# Altium footprint library 3dp_stdc14_tape_frame.PcbLib: 3 footprints
Each footprint in its own frame and in the unit in brackets; x right, y up, seen from the top. Pads: shape width x height; smd on the part's side, far side on the other; paste and mask are expansions set on the pad; w line width, h text height; cw(c..) or ccw(c..) is an arc to the next point about the centre after c.
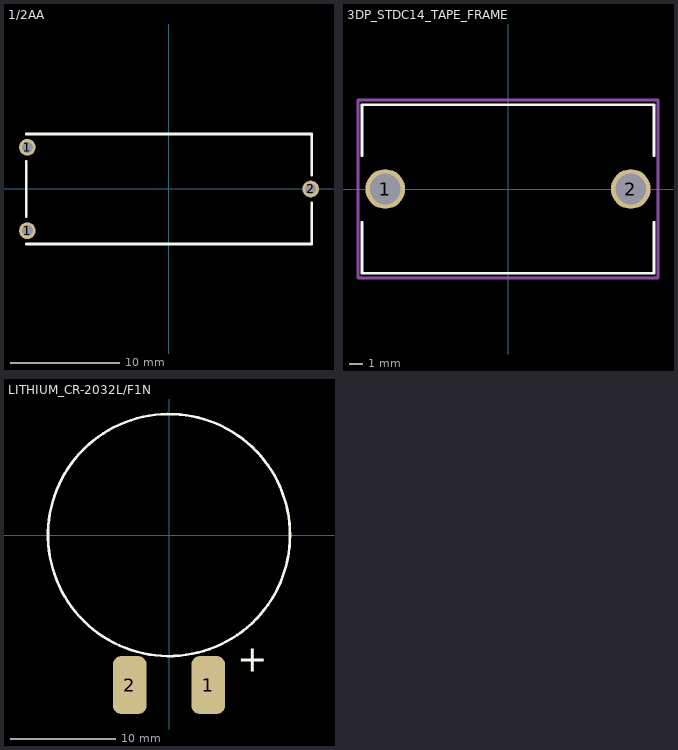
[diagram p0: the footprints below, top view; thin cyan lines are the x and y axes]

## 1/2AA [mm] "1/2AA TH BATTERY"
pads (3):
  round 1.524 hole 1: 1(-12.9,-3.8) 1(-12.9,3.8) 2(12.9,0)
Top Overlay:
  lines w0.254: -13,-5 13,-5 13,-1.25 ; -13,-2.5 -13,2.5 ; -13,5 13,5 13,1.25
3D body: height 8, standoff 0, extent -12.75,-4.75 12.75,4.75

## 3DP_STDC14_TAPE_FRAME [mm]
height 8
pads (2):
  round 3 / inner round 3 / far side round 4.5 hole 2.3: 1(-9.25,0) 2(9.25,0)
Top Overlay:
  lines w0.2: -11,-2.5 -11,-6.35 11,-6.35 11,-2.5 ; -11,2.5 -11,6.35 11,6.35 11,2.5
Top Courtyard:
  lines w0.2: -11.3,-6.7 -11.3,6.7 11.3,6.7 11.3,-6.7 -11.3,-6.7
Top Designator (Mech17):
  text ".Designator" at -2.15,-0.317 h1
3D body "stdc14 security tape frame.step": height 8, standoff 0, extent -11,-6.35 11,6.35

## LITHIUM_CR-2032L/F1N [mm] "BATTERY LITHIUM COIN 3V W/TABS"
pads (2):
  rrect50% 3.2x5.5 smd: 1(3.725,-14.25) 2(-3.725,-14.25)
Top Overlay:
  circle w0.254: c0,0 r11.5
  text "+" at 6.5,-13 h2.54
3D body: height 4, standoff 0, extent -10.048,-9.98 9.873,9.98